# Altium schematic symbol library kmilo17pet-NSC_Switcher.SchLib: 2226 symbols (part 52 of 59)
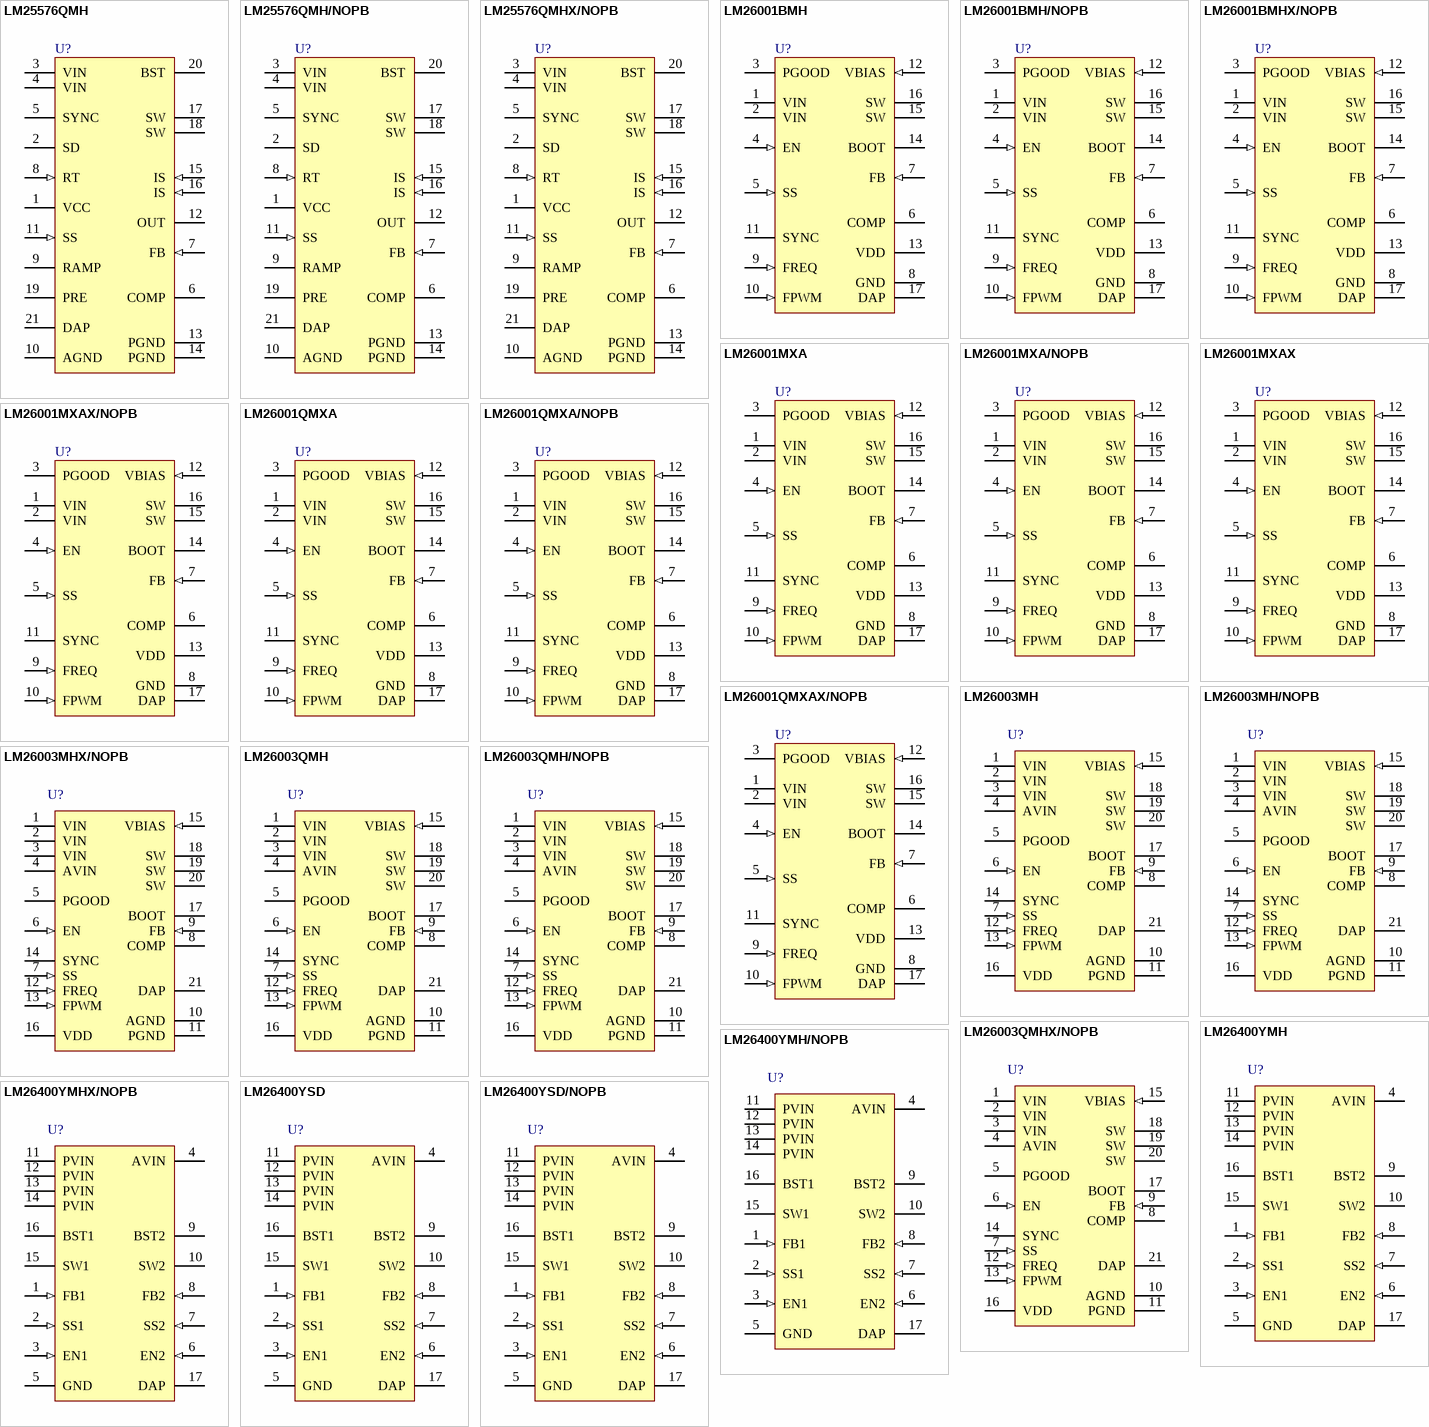
[diagram p120: symbols LM25576QMH to LM26400YSD/NOPB]

## LM26400YMH
designator U?
Dual 2A, 500kHz Wide Input Range Buck Regulator, 16-pin TSSOP-EP; PartNumber: LM26400YMH; Manufacturer: National Semiconductor; PackageTopMarking: NSUZXYTT*L26400*YMH; PowerWise: N; CompType: Switcher; High-Reliability: Y; DatasheetVersion: Aug-2007; PackageVersion: revA, Apr-2003; PackageReference: MXA16A; PackageDescription: Molded TSSOP, Jedec, Exposed Pad, 5.0 x 4.4 x 0.9mm Body,16 Lead, 0.65mm Pitch; RoHS: Y; PinCount: 16; Code_JEDEC: MO-153-ABT; ComponentLink1Description: Manufacturer URL; ComponentLink1URL: http://www.national.com/; ComponentLink2Description: LM26400Y Datasheet; ComponentLink2URL: http://www.national.com/ds/LM/LM26400Y.pdf; ComponentLink3Description: LM26400Y Web Page; ComponentLink3URL: http://www.national.com/pf/LM/LM26400Y.html; ComponentLink4Description: MXA16A Package Page; ComponentLink4URL: http://www.national.com/packaging/folders/mxa16a.html
footprint MXA16A_N (TSOP, 16-Leads, Body 5x4.4mm, Pitch 0.65mm, Thermal Pad, IPC Medium Density)
footprint MXA16A_L (TSOP, 16-Leads, Body 5x4.4mm, Pitch 0.65mm, Thermal Pad, IPC High Density)
footprint MXA16A_M (TSOP, 16-Leads, Body 5x4.4mm, Pitch 0.65mm, Thermal Pad, IPC Low Density)
pins: 1 FB1 (in), 2 SS1 (in), 3 EN1 (in), 4 AVIN (power), 5 GND (power), 6 EN2 (in), 7 SS2 (in), 8 FB2 (in), 9 BST2, 10 SW2 (power), 11 PVIN (power), 12 PVIN (power), 13 PVIN (power), 14 PVIN (power), 15 SW1 (power), 16 BST1, 17 DAP (power)

## LM26400YMH/NOPB
designator U?
Dual 2A, 500kHz Wide Input Range Buck Regulator, 16-pin TSSOP-EP, Pb-Free; PartNumber: LM26400YMH/NOPB; Manufacturer: National Semiconductor; PackageTopMarking: NSUZXYTT*L26400*YMH; PowerWise: N; CompType: Switcher; High-Reliability: Y; DatasheetVersion: Aug-2007; PackageVersion: revA, Apr-2003; PackageReference: MXA16A; PackageDescription: Molded TSSOP, Jedec, Exposed Pad, 5.0 x 4.4 x 0.9mm Body,16 Lead, 0.65mm Pitch; RoHS: Y; PinCount: 16; Code_JEDEC: MO-153-ABT; ComponentLink1Description: Manufacturer URL; ComponentLink1URL: http://www.national.com/; ComponentLink2Description: LM26400Y Datasheet; ComponentLink2URL: http://www.national.com/ds/LM/LM26400Y.pdf; ComponentLink3Description: LM26400Y Web Page; ComponentLink3URL: http://www.national.com/pf/LM/LM26400Y.html; ComponentLink4Description: MXA16A Package Page; ComponentLink4URL: http://www.national.com/packaging/folders/mxa16a.html
footprint MXA16A_N (TSOP, 16-Leads, Body 5x4.4mm, Pitch 0.65mm, Thermal Pad, IPC Medium Density)
footprint MXA16A_L (TSOP, 16-Leads, Body 5x4.4mm, Pitch 0.65mm, Thermal Pad, IPC High Density)
footprint MXA16A_M (TSOP, 16-Leads, Body 5x4.4mm, Pitch 0.65mm, Thermal Pad, IPC Low Density)
pins: 1 FB1 (in), 2 SS1 (in), 3 EN1 (in), 4 AVIN (power), 5 GND (power), 6 EN2 (in), 7 SS2 (in), 8 FB2 (in), 9 BST2, 10 SW2 (power), 11 PVIN (power), 12 PVIN (power), 13 PVIN (power), 14 PVIN (power), 15 SW1 (power), 16 BST1, 17 DAP (power)

## LM26400YMHX/NOPB
designator U?
Dual 2A, 500kHz Wide Input Range Buck Regulator, 16-pin TSSOP-EP, Pb-Free; PartNumber: LM26400YMHX/NOPB; Manufacturer: National Semiconductor; PackageTopMarking: NSUZXYTT*L26400*YMH; PowerWise: N; CompType: Switcher; High-Reliability: Y; DatasheetVersion: Aug-2007; PackageVersion: revA, Apr-2003; PackageReference: MXA16A; PackageDescription: Molded TSSOP, Jedec, Exposed Pad, 5.0 x 4.4 x 0.9mm Body,16 Lead, 0.65mm Pitch; RoHS: Y; PinCount: 16; Code_JEDEC: MO-153-ABT; ComponentLink1Description: Manufacturer URL; ComponentLink1URL: http://www.national.com/; ComponentLink2Description: LM26400Y Datasheet; ComponentLink2URL: http://www.national.com/ds/LM/LM26400Y.pdf; ComponentLink3Description: LM26400Y Web Page; ComponentLink3URL: http://www.national.com/pf/LM/LM26400Y.html; ComponentLink4Description: MXA16A Package Page; ComponentLink4URL: http://www.national.com/packaging/folders/mxa16a.html
footprint MXA16A_N (TSOP, 16-Leads, Body 5x4.4mm, Pitch 0.65mm, Thermal Pad, IPC Medium Density)
footprint MXA16A_L (TSOP, 16-Leads, Body 5x4.4mm, Pitch 0.65mm, Thermal Pad, IPC High Density)
footprint MXA16A_M (TSOP, 16-Leads, Body 5x4.4mm, Pitch 0.65mm, Thermal Pad, IPC Low Density)
pins: 1 FB1 (in), 2 SS1 (in), 3 EN1 (in), 4 AVIN (power), 5 GND (power), 6 EN2 (in), 7 SS2 (in), 8 FB2 (in), 9 BST2, 10 SW2 (power), 11 PVIN (power), 12 PVIN (power), 13 PVIN (power), 14 PVIN (power), 15 SW1 (power), 16 BST1, 17 DAP (power)

## LM26400YSD
designator U?
Dual 2A, 500kHz Wide Input Range Buck Regulator, 16-pin LLP; PartNumber: LM26400YSD; Manufacturer: National Semiconductor; PackageTopMarking: NS*UZXYTT*L26400Y; PowerWise: N; CompType: Switcher; High-Reliability: Y; DatasheetVersion: Aug-2007; PackageVersion: revA, May-2003; PackageReference: SDA16A; PackageDescription: LLP, Plastic, Dual, 5 x 5 x 0.8mm Body,16 Lead, 0.5mm Pitch, No Pullback; RoHS: N; PinCount: 16; ComponentLink1Description: Manufacturer URL; ComponentLink1URL: http://www.national.com/; ComponentLink2Description: LM26400Y Datasheet; ComponentLink2URL: http://www.national.com/ds/LM/LM26400Y.pdf; ComponentLink3Description: LM26400Y Web Page; ComponentLink3URL: http://www.national.com/pf/LM/LM26400Y.html; ComponentLink4Description: SDA16A Package Page; ComponentLink4URL: http://www.national.com/packaging/folders/sda16a.html
footprint SDA16A (SON, 16-Leads, Body 5x5mm, Pitch 0.5mm, NSC Recommended)
pins: 1 FB1 (in), 2 SS1 (in), 3 EN1 (in), 4 AVIN (power), 5 GND (power), 6 EN2 (in), 7 SS2 (in), 8 FB2 (in), 9 BST2, 10 SW2 (power), 11 PVIN (power), 12 PVIN (power), 13 PVIN (power), 14 PVIN (power), 15 SW1 (power), 16 BST1, 17 DAP (power)

## LM26400YSD/NOPB
designator U?
Dual 2A, 500kHz Wide Input Range Buck Regulator, 16-pin LLP, Pb-Free; PartNumber: LM26400YSD/NOPB; Manufacturer: National Semiconductor; PackageTopMarking: NS*UZXYTT*L26400Y; PowerWise: N; CompType: Switcher; High-Reliability: Y; DatasheetVersion: Aug-2007; PackageVersion: revA, May-2003; PackageReference: SDA16A; PackageDescription: LLP, Plastic, Dual, 5 x 5 x 0.8mm Body,16 Lead, 0.5mm Pitch, No Pullback; RoHS: Y; PinCount: 16; ComponentLink1Description: Manufacturer URL; ComponentLink1URL: http://www.national.com/; ComponentLink2Description: LM26400Y Datasheet; ComponentLink2URL: http://www.national.com/ds/LM/LM26400Y.pdf; ComponentLink3Description: LM26400Y Web Page; ComponentLink3URL: http://www.national.com/pf/LM/LM26400Y.html; ComponentLink4Description: SDA16A Package Page; ComponentLink4URL: http://www.national.com/packaging/folders/sda16a.html
footprint SDA16A (SON, 16-Leads, Body 5x5mm, Pitch 0.5mm, NSC Recommended)
pins: 1 FB1 (in), 2 SS1 (in), 3 EN1 (in), 4 AVIN (power), 5 GND (power), 6 EN2 (in), 7 SS2 (in), 8 FB2 (in), 9 BST2, 10 SW2 (power), 11 PVIN (power), 12 PVIN (power), 13 PVIN (power), 14 PVIN (power), 15 SW1 (power), 16 BST1, 17 DAP (power)

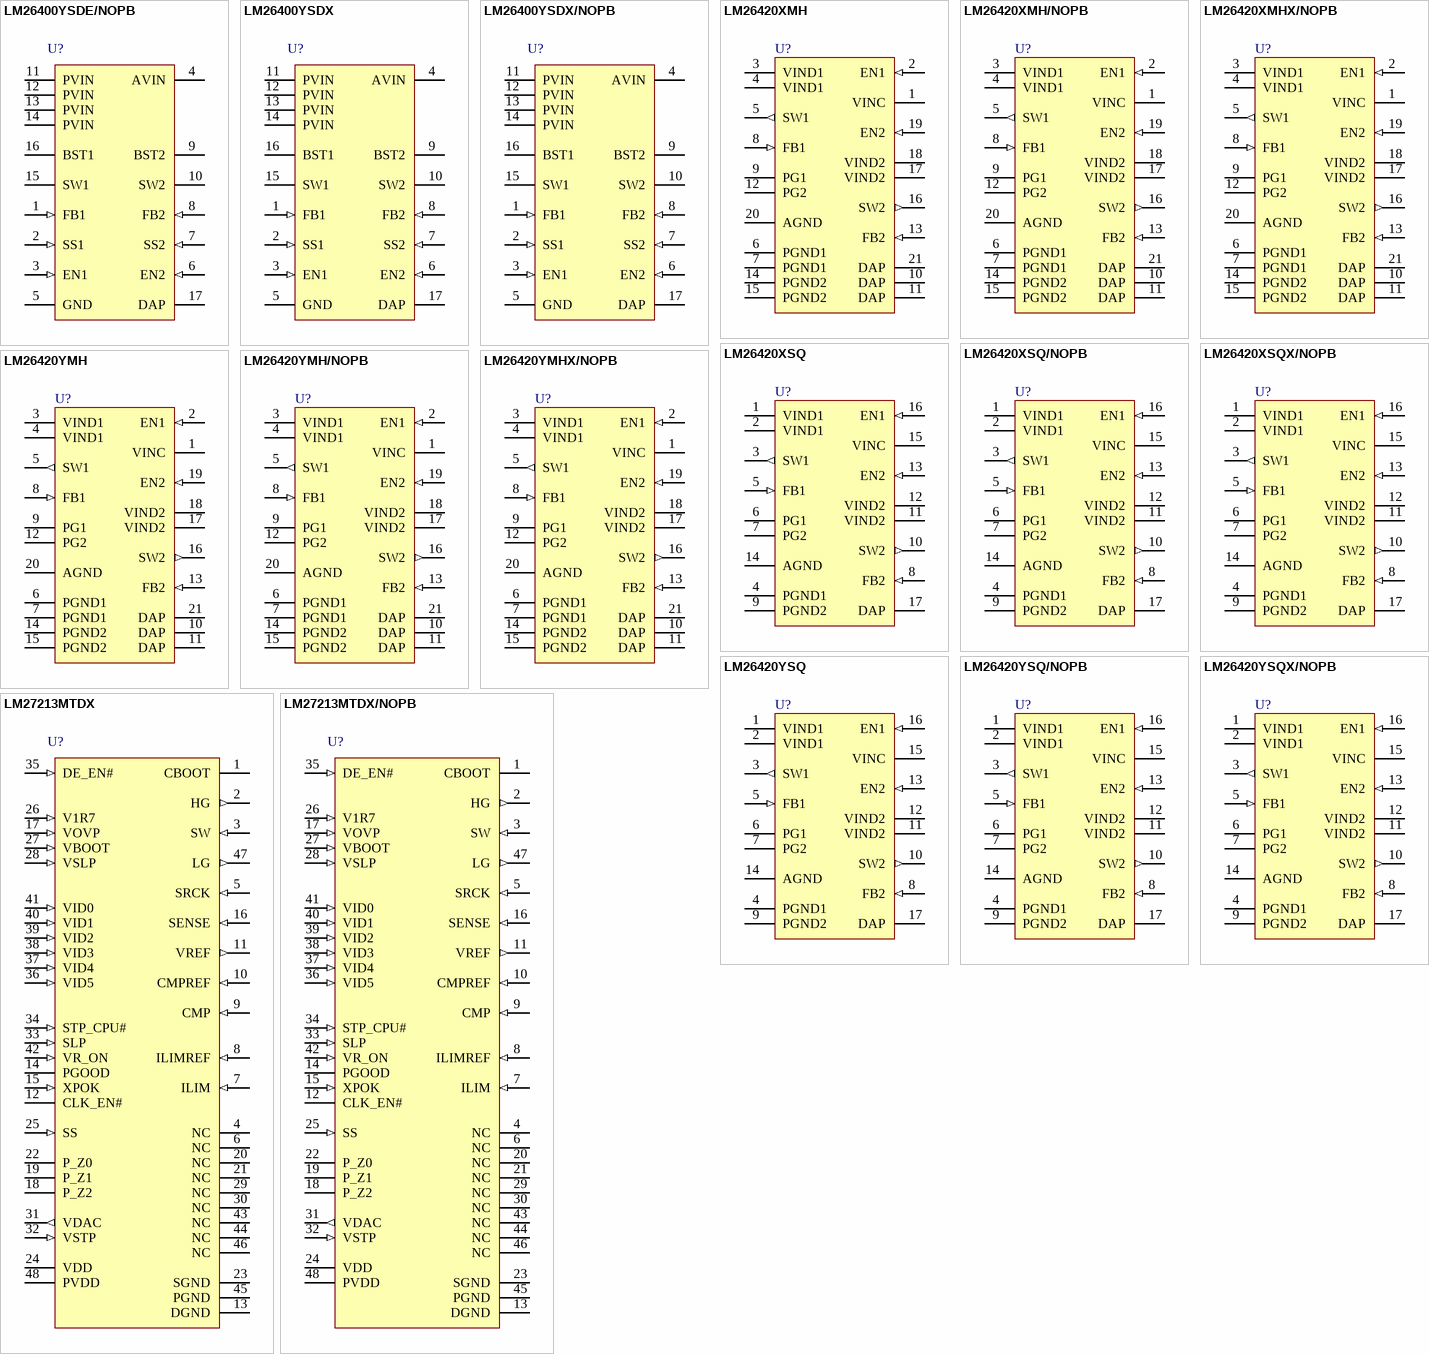
[diagram p59: symbols LM26400YSDE/NOPB to LM27213MTDX/NOPB]

## LM26400YSDE/NOPB
designator U?
Dual 2A, 500kHz Wide Input Range Buck Regulator, 16-pin LLP, Pb-Free; PartNumber: LM26400YSDE/NOPB; Manufacturer: National Semiconductor; PackageTopMarking: NS*UZXYTT*L26400Y; PowerWise: N; CompType: Switcher; High-Reliability: Y; DatasheetVersion: Aug-2007; PackageVersion: revA, May-2003; PackageReference: SDA16A; PackageDescription: LLP, Plastic, Dual, 5 x 5 x 0.8mm Body,16 Lead, 0.5mm Pitch, No Pullback; RoHS: Y; PinCount: 16; ComponentLink1Description: Manufacturer URL; ComponentLink1URL: http://www.national.com/; ComponentLink2Description: LM26400Y Datasheet; ComponentLink2URL: http://www.national.com/ds/LM/LM26400Y.pdf; ComponentLink3Description: LM26400Y Web Page; ComponentLink3URL: http://www.national.com/pf/LM/LM26400Y.html; ComponentLink4Description: SDA16A Package Page; ComponentLink4URL: http://www.national.com/packaging/folders/sda16a.html
footprint SDA16A (SON, 16-Leads, Body 5x5mm, Pitch 0.5mm, NSC Recommended)
pins: 1 FB1 (in), 2 SS1 (in), 3 EN1 (in), 4 AVIN (power), 5 GND (power), 6 EN2 (in), 7 SS2 (in), 8 FB2 (in), 9 BST2, 10 SW2 (power), 11 PVIN (power), 12 PVIN (power), 13 PVIN (power), 14 PVIN (power), 15 SW1 (power), 16 BST1, 17 DAP (power)

## LM26400YSDX
designator U?
Dual 2A, 500kHz Wide Input Range Buck Regulator, 16-pin LLP; PartNumber: LM26400YSDX; Manufacturer: National Semiconductor; PackageTopMarking: NS*UZXYTT*L26400Y; PowerWise: N; CompType: Switcher; High-Reliability: Y; DatasheetVersion: Aug-2007; PackageVersion: revA, May-2003; PackageReference: SDA16A; PackageDescription: LLP, Plastic, Dual, 5 x 5 x 0.8mm Body,16 Lead, 0.5mm Pitch, No Pullback; RoHS: N; PinCount: 16; ComponentLink1Description: Manufacturer URL; ComponentLink1URL: http://www.national.com/; ComponentLink2Description: LM26400Y Datasheet; ComponentLink2URL: http://www.national.com/ds/LM/LM26400Y.pdf; ComponentLink3Description: LM26400Y Web Page; ComponentLink3URL: http://www.national.com/pf/LM/LM26400Y.html; ComponentLink4Description: SDA16A Package Page; ComponentLink4URL: http://www.national.com/packaging/folders/sda16a.html
footprint SDA16A (SON, 16-Leads, Body 5x5mm, Pitch 0.5mm, NSC Recommended)
pins: 1 FB1 (in), 2 SS1 (in), 3 EN1 (in), 4 AVIN (power), 5 GND (power), 6 EN2 (in), 7 SS2 (in), 8 FB2 (in), 9 BST2, 10 SW2 (power), 11 PVIN (power), 12 PVIN (power), 13 PVIN (power), 14 PVIN (power), 15 SW1 (power), 16 BST1, 17 DAP (power)

## LM26400YSDX/NOPB
designator U?
Dual 2A, 500kHz Wide Input Range Buck Regulator, 16-pin LLP, Pb-Free; PartNumber: LM26400YSDX/NOPB; Manufacturer: National Semiconductor; PackageTopMarking: NS*UZXYTT*L26400Y; PowerWise: N; CompType: Switcher; High-Reliability: Y; DatasheetVersion: Aug-2007; PackageVersion: revA, May-2003; PackageReference: SDA16A; PackageDescription: LLP, Plastic, Dual, 5 x 5 x 0.8mm Body,16 Lead, 0.5mm Pitch, No Pullback; RoHS: Y; PinCount: 16; ComponentLink1Description: Manufacturer URL; ComponentLink1URL: http://www.national.com/; ComponentLink2Description: LM26400Y Datasheet; ComponentLink2URL: http://www.national.com/ds/LM/LM26400Y.pdf; ComponentLink3Description: LM26400Y Web Page; ComponentLink3URL: http://www.national.com/pf/LM/LM26400Y.html; ComponentLink4Description: SDA16A Package Page; ComponentLink4URL: http://www.national.com/packaging/folders/sda16a.html
footprint SDA16A (SON, 16-Leads, Body 5x5mm, Pitch 0.5mm, NSC Recommended)
pins: 1 FB1 (in), 2 SS1 (in), 3 EN1 (in), 4 AVIN (power), 5 GND (power), 6 EN2 (in), 7 SS2 (in), 8 FB2 (in), 9 BST2, 10 SW2 (power), 11 PVIN (power), 12 PVIN (power), 13 PVIN (power), 14 PVIN (power), 15 SW1 (power), 16 BST1, 17 DAP (power)

## LM26420XMH
designator U?
Dual 2.0A, High Frequency Synchronous Step-Down DC-DC Regulator, 2.2MHz, 20-pin TSSOP-EP; PartNumber: LM26420XMH; Manufacturer: National Semiconductor; PackageTopMarking: NSUZXYTT*LM26420*XMH; PowerWise: Y; CompType: Switcher; DatasheetVersion: May-2009; PackageVersion: revC, Jul-2006; PackageReference: MXA20A; PackageDescription: Molded TSSOP, Jedec, 6.5 x 4.4 x 0.9mm Body, 20 Lead, 0.65mm Pitch, Exposed Pad; RoHS: Y; PinCount: 20; High-Reliability: Y; Code_JEDEC: MO-153-ACT; ComponentLink1Description: Manufacturer URL; ComponentLink1URL: http://www.national.com/; ComponentLink2Description: LM26420 Datasheet; ComponentLink2URL: http://www.national.com/ds/LM/LM26420.pdf; ComponentLink3Description: LM26420 Web Page; ComponentLink3URL: http://www.national.com/pf/LM/LM26420.html; ComponentLink4Description: MXA20A Package Page; ComponentLink4URL: http://www.national.com/packaging/folders/mxa20a.html
footprint MXA20A_N (TSOP, 20-Leads, Body 6.5x4.4mm, Pitch 0.65mm, Thermal Pad, IPC Medium Density)
footprint MXA20A_L (TSOP, 20-Leads, Body 6.5x4.4mm, Pitch 0.65mm, Thermal Pad, IPC High Density)
footprint MXA20A_M (TSOP, 20-Leads, Body 6.5x4.4mm, Pitch 0.65mm, Thermal Pad, IPC Low Density)
pins: 1 VINC (power), 2 EN1 (in), 3 VIND1 (power), 4 VIND1 (power), 5 SW1 (out), 6 PGND1 (power), 7 PGND1 (power), 8 FB1 (in), 9 PG1 (oc), 10 DAP (power), 11 DAP (power), 12 PG2 (oc), 13 FB2 (in), 14 PGND2 (power), 15 PGND2 (power), 16 SW2 (out), 17 VIND2 (power), 18 VIND2 (power), 19 EN2 (in), 20 AGND (power), 21 DAP (power)

## LM26420XMH/NOPB
designator U?
Dual 2.0A, High Frequency Synchronous Step-Down DC-DC Regulator, 20-pin TSSOP-EP, Pb-Free; PartNumber: LM26420XMH/NOPB; Manufacturer: National Semiconductor; PackageTopMarking: NSUZXYTT*LM26420*XMH; PowerWise: Y; CompType: Switcher; DatasheetVersion: May-2009; PackageVersion: revC, Jul-2006; PackageReference: MXA20A; PackageDescription: Molded TSSOP, Jedec, 6.5 x 4.4 x 0.9mm Body, 20 Lead, 0.65mm Pitch, Exposed Pad; RoHS: Y; PinCount: 20; High-Reliability: Y; Code_JEDEC: MO-153-ACT; ComponentLink1Description: Manufacturer URL; ComponentLink1URL: http://www.national.com/; ComponentLink2Description: LM26420 Datasheet; ComponentLink2URL: http://www.national.com/ds/LM/LM26420.pdf; ComponentLink3Description: LM26420 Web Page; ComponentLink3URL: http://www.national.com/pf/LM/LM26420.html; ComponentLink4Description: MXA20A Package Page; ComponentLink4URL: http://www.national.com/packaging/folders/mxa20a.html
footprint MXA20A_N (TSOP, 20-Leads, Body 6.5x4.4mm, Pitch 0.65mm, Thermal Pad, IPC Medium Density)
footprint MXA20A_L (TSOP, 20-Leads, Body 6.5x4.4mm, Pitch 0.65mm, Thermal Pad, IPC High Density)
footprint MXA20A_M (TSOP, 20-Leads, Body 6.5x4.4mm, Pitch 0.65mm, Thermal Pad, IPC Low Density)
pins: 1 VINC (power), 2 EN1 (in), 3 VIND1 (power), 4 VIND1 (power), 5 SW1 (out), 6 PGND1 (power), 7 PGND1 (power), 8 FB1 (in), 9 PG1 (oc), 10 DAP (power), 11 DAP (power), 12 PG2 (oc), 13 FB2 (in), 14 PGND2 (power), 15 PGND2 (power), 16 SW2 (out), 17 VIND2 (power), 18 VIND2 (power), 19 EN2 (in), 20 AGND (power), 21 DAP (power)

## LM26420XMHX/NOPB
designator U?
Dual 2.0A, High Frequency Synchronous Step-Down DC-DC Regulator, 20-pin TSSOP-EP, Pb-Free; PartNumber: LM26420XMHX/NOPB; Manufacturer: National Semiconductor; PackageTopMarking: NSUZXYTT*LM26420*XMH; PowerWise: Y; CompType: Switcher; DatasheetVersion: May-2009; PackageVersion: revC, Jul-2006; PackageReference: MXA20A; PackageDescription: Molded TSSOP, Jedec, 6.5 x 4.4 x 0.9mm Body, 20 Lead, 0.65mm Pitch, Exposed Pad; RoHS: Y; PinCount: 20; High-Reliability: Y; Code_JEDEC: MO-153-ACT; ComponentLink1Description: Manufacturer URL; ComponentLink1URL: http://www.national.com/; ComponentLink2Description: LM26420 Datasheet; ComponentLink2URL: http://www.national.com/ds/LM/LM26420.pdf; ComponentLink3Description: LM26420 Web Page; ComponentLink3URL: http://www.national.com/pf/LM/LM26420.html; ComponentLink4Description: MXA20A Package Page; ComponentLink4URL: http://www.national.com/packaging/folders/mxa20a.html
footprint MXA20A_N (TSOP, 20-Leads, Body 6.5x4.4mm, Pitch 0.65mm, Thermal Pad, IPC Medium Density)
footprint MXA20A_L (TSOP, 20-Leads, Body 6.5x4.4mm, Pitch 0.65mm, Thermal Pad, IPC High Density)
footprint MXA20A_M (TSOP, 20-Leads, Body 6.5x4.4mm, Pitch 0.65mm, Thermal Pad, IPC Low Density)
pins: 1 VINC (power), 2 EN1 (in), 3 VIND1 (power), 4 VIND1 (power), 5 SW1 (out), 6 PGND1 (power), 7 PGND1 (power), 8 FB1 (in), 9 PG1 (oc), 10 DAP (power), 11 DAP (power), 12 PG2 (oc), 13 FB2 (in), 14 PGND2 (power), 15 PGND2 (power), 16 SW2 (out), 17 VIND2 (power), 18 VIND2 (power), 19 EN2 (in), 20 AGND (power), 21 DAP (power)

## LM26420XSQ
designator U?
Dual 2.0A, High Frequency Synchronous Step-Down DC-DC Regulator, 2.2MHz, 16-pin LLP; PartNumber: LM26420XSQ; Manufacturer: National Semiconductor; PackageTopMarking: NS*UZXYTT*L26420X; PowerWise: Y; CompType: Switcher; DatasheetVersion: May-2009; PackageVersion: revA, Dec-2005; PackageReference: SQB16A; PackageDescription: LLP, Plastic, Quad, 4 x 4 x 0.8mm, 16 Lead, 0.65mm Pitch, No Pullback; RoHS: Y; PinCount: 16; High-Reliability: Y; ComponentLink1Description: Manufacturer URL; ComponentLink1URL: http://www.national.com/; ComponentLink2Description: LM26420 Datasheet; ComponentLink2URL: http://www.national.com/ds/LM/LM26420.pdf; ComponentLink3Description: LM26420 Web Page; ComponentLink3URL: http://www.national.com/pf/LM/LM26420.html; ComponentLink4Description: SQB16A Package Page; ComponentLink4URL: http://www.national.com/packaging/folders/sqb16a.html
footprint SQB16A (QFN, 16-Leads, Body 4x4mm, Pitch 0.65mm, Thermal Pad 2.6x2.6mm, NSC Recommended)
pins: 1 VIND1 (power), 2 VIND1 (power), 3 SW1 (out), 4 PGND1 (power), 5 FB1 (in), 6 PG1 (oc), 7 PG2 (oc), 8 FB2 (in), 9 PGND2 (power), 10 SW2 (out), 11 VIND2 (power), 12 VIND2 (power), 13 EN2 (in), 14 AGND (power), 15 VINC (power), 16 EN1 (in), 17 DAP (power)

## LM26420XSQ/NOPB
designator U?
Dual 2.0A, High Frequency Synchronous Step-Down DC-DC Regulator, 16-pin LLP, Pb-Free; PartNumber: LM26420XSQ/NOPB; Manufacturer: National Semiconductor; PackageTopMarking: NS*UZXYTT*L26420X; PowerWise: Y; CompType: Switcher; DatasheetVersion: May-2009; PackageVersion: revA, Dec-2005; PackageReference: SQB16A; PackageDescription: LLP, Plastic, Quad, 4 x 4 x 0.8mm, 16 Lead, 0.65mm Pitch, No Pullback; RoHS: Y; PinCount: 16; High-Reliability: Y; ComponentLink1Description: Manufacturer URL; ComponentLink1URL: http://www.national.com/; ComponentLink2Description: LM26420 Datasheet; ComponentLink2URL: http://www.national.com/ds/LM/LM26420.pdf; ComponentLink3Description: LM26420 Web Page; ComponentLink3URL: http://www.national.com/pf/LM/LM26420.html; ComponentLink4Description: SQB16A Package Page; ComponentLink4URL: http://www.national.com/packaging/folders/sqb16a.html
footprint SQB16A (QFN, 16-Leads, Body 4x4mm, Pitch 0.65mm, Thermal Pad 2.6x2.6mm, NSC Recommended)
pins: 1 VIND1 (power), 2 VIND1 (power), 3 SW1 (out), 4 PGND1 (power), 5 FB1 (in), 6 PG1 (oc), 7 PG2 (oc), 8 FB2 (in), 9 PGND2 (power), 10 SW2 (out), 11 VIND2 (power), 12 VIND2 (power), 13 EN2 (in), 14 AGND (power), 15 VINC (power), 16 EN1 (in), 17 DAP (power)

## LM26420XSQX/NOPB
designator U?
Dual 2.0A, High Frequency Synchronous Step-Down DC-DC Regulator, 16-pin LLP, Pb-Free; PartNumber: LM26420XSQX/NOPB; Manufacturer: National Semiconductor; PackageTopMarking: NS*UZXYTT*L26420X; PowerWise: Y; CompType: Switcher; DatasheetVersion: May-2009; PackageVersion: revA, Dec-2005; PackageReference: SQB16A; PackageDescription: LLP, Plastic, Quad, 4 x 4 x 0.8mm, 16 Lead, 0.65mm Pitch, No Pullback; RoHS: Y; PinCount: 16; High-Reliability: Y; ComponentLink1Description: Manufacturer URL; ComponentLink1URL: http://www.national.com/; ComponentLink2Description: LM26420 Datasheet; ComponentLink2URL: http://www.national.com/ds/LM/LM26420.pdf; ComponentLink3Description: LM26420 Web Page; ComponentLink3URL: http://www.national.com/pf/LM/LM26420.html; ComponentLink4Description: SQB16A Package Page; ComponentLink4URL: http://www.national.com/packaging/folders/sqb16a.html
footprint SQB16A (QFN, 16-Leads, Body 4x4mm, Pitch 0.65mm, Thermal Pad 2.6x2.6mm, NSC Recommended)
pins: 1 VIND1 (power), 2 VIND1 (power), 3 SW1 (out), 4 PGND1 (power), 5 FB1 (in), 6 PG1 (oc), 7 PG2 (oc), 8 FB2 (in), 9 PGND2 (power), 10 SW2 (out), 11 VIND2 (power), 12 VIND2 (power), 13 EN2 (in), 14 AGND (power), 15 VINC (power), 16 EN1 (in), 17 DAP (power)

## LM26420YMH
designator U?
Dual 2.0A, High Frequency Synchronous Step-Down DC-DC Regulator, 0.55MHz, 20-pin TSSOP-EP; PartNumber: LM26420YMH; Manufacturer: National Semiconductor; PackageTopMarking: NSUZXYTT*LM26420*YMH; PowerWise: Y; CompType: Switcher; DatasheetVersion: May-2009; PackageVersion: revC, Jul-2006; PackageReference: MXA20A; PackageDescription: Molded TSSOP, Jedec, 6.5 x 4.4 x 0.9mm Body, 20 Lead, 0.65mm Pitch, Exposed Pad; RoHS: Y; PinCount: 20; High-Reliability: Y; Code_JEDEC: MO-153-ACT; ComponentLink1Description: Manufacturer URL; ComponentLink1URL: http://www.national.com/; ComponentLink2Description: LM26420 Datasheet; ComponentLink2URL: http://www.national.com/ds/LM/LM26420.pdf; ComponentLink3Description: LM26420 Web Page; ComponentLink3URL: http://www.national.com/pf/LM/LM26420.html; ComponentLink4Description: MXA20A Package Page; ComponentLink4URL: http://www.national.com/packaging/folders/mxa20a.html
footprint MXA20A_N (TSOP, 20-Leads, Body 6.5x4.4mm, Pitch 0.65mm, Thermal Pad, IPC Medium Density)
footprint MXA20A_L (TSOP, 20-Leads, Body 6.5x4.4mm, Pitch 0.65mm, Thermal Pad, IPC High Density)
footprint MXA20A_M (TSOP, 20-Leads, Body 6.5x4.4mm, Pitch 0.65mm, Thermal Pad, IPC Low Density)
pins: 1 VINC (power), 2 EN1 (in), 3 VIND1 (power), 4 VIND1 (power), 5 SW1 (out), 6 PGND1 (power), 7 PGND1 (power), 8 FB1 (in), 9 PG1 (oc), 10 DAP (power), 11 DAP (power), 12 PG2 (oc), 13 FB2 (in), 14 PGND2 (power), 15 PGND2 (power), 16 SW2 (out), 17 VIND2 (power), 18 VIND2 (power), 19 EN2 (in), 20 AGND (power), 21 DAP (power)

## LM26420YMH/NOPB
designator U?
Dual 2.0A, High Frequency Synchronous Step-Down DC-DC Regulator, 20-pin TSSOP-EP, Pb-Free; PartNumber: LM26420YMH/NOPB; Manufacturer: National Semiconductor; PackageTopMarking: NSUZXYTT*LM26420*YMH; PowerWise: Y; CompType: Switcher; DatasheetVersion: May-2009; PackageVersion: revC, Jul-2006; PackageReference: MXA20A; PackageDescription: Molded TSSOP, Jedec, 6.5 x 4.4 x 0.9mm Body, 20 Lead, 0.65mm Pitch, Exposed Pad; RoHS: Y; PinCount: 20; High-Reliability: Y; Code_JEDEC: MO-153-ACT; ComponentLink1Description: Manufacturer URL; ComponentLink1URL: http://www.national.com/; ComponentLink2Description: LM26420 Datasheet; ComponentLink2URL: http://www.national.com/ds/LM/LM26420.pdf; ComponentLink3Description: LM26420 Web Page; ComponentLink3URL: http://www.national.com/pf/LM/LM26420.html; ComponentLink4Description: MXA20A Package Page; ComponentLink4URL: http://www.national.com/packaging/folders/mxa20a.html
footprint MXA20A_N (TSOP, 20-Leads, Body 6.5x4.4mm, Pitch 0.65mm, Thermal Pad, IPC Medium Density)
footprint MXA20A_L (TSOP, 20-Leads, Body 6.5x4.4mm, Pitch 0.65mm, Thermal Pad, IPC High Density)
footprint MXA20A_M (TSOP, 20-Leads, Body 6.5x4.4mm, Pitch 0.65mm, Thermal Pad, IPC Low Density)
pins: 1 VINC (power), 2 EN1 (in), 3 VIND1 (power), 4 VIND1 (power), 5 SW1 (out), 6 PGND1 (power), 7 PGND1 (power), 8 FB1 (in), 9 PG1 (oc), 10 DAP (power), 11 DAP (power), 12 PG2 (oc), 13 FB2 (in), 14 PGND2 (power), 15 PGND2 (power), 16 SW2 (out), 17 VIND2 (power), 18 VIND2 (power), 19 EN2 (in), 20 AGND (power), 21 DAP (power)

## LM26420YMHX/NOPB
designator U?
Dual 2.0A, High Frequency Synchronous Step-Down DC-DC Regulator, 20-pin TSSOP-EP, Pb-Free; PartNumber: LM26420YMHX/NOPB; Manufacturer: National Semiconductor; PackageTopMarking: NSUZXYTT*LM26420*YMH; PowerWise: Y; CompType: Switcher; DatasheetVersion: May-2009; PackageVersion: revC, Jul-2006; PackageReference: MXA20A; PackageDescription: Molded TSSOP, Jedec, 6.5 x 4.4 x 0.9mm Body, 20 Lead, 0.65mm Pitch, Exposed Pad; RoHS: Y; PinCount: 20; High-Reliability: Y; Code_JEDEC: MO-153-ACT; ComponentLink1Description: Manufacturer URL; ComponentLink1URL: http://www.national.com/; ComponentLink2Description: LM26420 Datasheet; ComponentLink2URL: http://www.national.com/ds/LM/LM26420.pdf; ComponentLink3Description: LM26420 Web Page; ComponentLink3URL: http://www.national.com/pf/LM/LM26420.html; ComponentLink4Description: MXA20A Package Page; ComponentLink4URL: http://www.national.com/packaging/folders/mxa20a.html
footprint MXA20A_N (TSOP, 20-Leads, Body 6.5x4.4mm, Pitch 0.65mm, Thermal Pad, IPC Medium Density)
footprint MXA20A_L (TSOP, 20-Leads, Body 6.5x4.4mm, Pitch 0.65mm, Thermal Pad, IPC High Density)
footprint MXA20A_M (TSOP, 20-Leads, Body 6.5x4.4mm, Pitch 0.65mm, Thermal Pad, IPC Low Density)
pins: 1 VINC (power), 2 EN1 (in), 3 VIND1 (power), 4 VIND1 (power), 5 SW1 (out), 6 PGND1 (power), 7 PGND1 (power), 8 FB1 (in), 9 PG1 (oc), 10 DAP (power), 11 DAP (power), 12 PG2 (oc), 13 FB2 (in), 14 PGND2 (power), 15 PGND2 (power), 16 SW2 (out), 17 VIND2 (power), 18 VIND2 (power), 19 EN2 (in), 20 AGND (power), 21 DAP (power)

## LM26420YSQ
designator U?
Dual 2.0A, High Frequency Synchronous Step-Down DC-DC Regulator, 0.55MHz, 16-pin LLP; PartNumber: LM26420YSQ; Manufacturer: National Semiconductor; PackageTopMarking: NS*UZXYTT*L26420Y; PowerWise: Y; CompType: Switcher; DatasheetVersion: May-2009; PackageVersion: revA, Dec-2005; PackageReference: SQB16A; PackageDescription: LLP, Plastic, Quad, 4 x 4 x 0.8mm, 16 Lead, 0.65mm Pitch, No Pullback; RoHS: Y; PinCount: 16; High-Reliability: Y; ComponentLink1Description: Manufacturer URL; ComponentLink1URL: http://www.national.com/; ComponentLink2Description: LM26420 Datasheet; ComponentLink2URL: http://www.national.com/ds/LM/LM26420.pdf; ComponentLink3Description: LM26420 Web Page; ComponentLink3URL: http://www.national.com/pf/LM/LM26420.html; ComponentLink4Description: SQB16A Package Page; ComponentLink4URL: http://www.national.com/packaging/folders/sqb16a.html
footprint SQB16A (QFN, 16-Leads, Body 4x4mm, Pitch 0.65mm, Thermal Pad 2.6x2.6mm, NSC Recommended)
pins: 1 VIND1 (power), 2 VIND1 (power), 3 SW1 (out), 4 PGND1 (power), 5 FB1 (in), 6 PG1 (oc), 7 PG2 (oc), 8 FB2 (in), 9 PGND2 (power), 10 SW2 (out), 11 VIND2 (power), 12 VIND2 (power), 13 EN2 (in), 14 AGND (power), 15 VINC (power), 16 EN1 (in), 17 DAP (power)

## LM26420YSQ/NOPB
designator U?
Dual 2.0A, High Frequency Synchronous Step-Down DC-DC Regulator, 16-pin LLP, Pb-Free; PartNumber: LM26420YSQ/NOPB; Manufacturer: National Semiconductor; PackageTopMarking: NS*UZXYTT*L26420Y; PowerWise: Y; CompType: Switcher; DatasheetVersion: May-2009; PackageVersion: revA, Dec-2005; PackageReference: SQB16A; PackageDescription: LLP, Plastic, Quad, 4 x 4 x 0.8mm, 16 Lead, 0.65mm Pitch, No Pullback; RoHS: Y; PinCount: 16; High-Reliability: Y; ComponentLink1Description: Manufacturer URL; ComponentLink1URL: http://www.national.com/; ComponentLink2Description: LM26420 Datasheet; ComponentLink2URL: http://www.national.com/ds/LM/LM26420.pdf; ComponentLink3Description: LM26420 Web Page; ComponentLink3URL: http://www.national.com/pf/LM/LM26420.html; ComponentLink4Description: SQB16A Package Page; ComponentLink4URL: http://www.national.com/packaging/folders/sqb16a.html
footprint SQB16A (QFN, 16-Leads, Body 4x4mm, Pitch 0.65mm, Thermal Pad 2.6x2.6mm, NSC Recommended)
pins: 1 VIND1 (power), 2 VIND1 (power), 3 SW1 (out), 4 PGND1 (power), 5 FB1 (in), 6 PG1 (oc), 7 PG2 (oc), 8 FB2 (in), 9 PGND2 (power), 10 SW2 (out), 11 VIND2 (power), 12 VIND2 (power), 13 EN2 (in), 14 AGND (power), 15 VINC (power), 16 EN1 (in), 17 DAP (power)

## LM26420YSQX/NOPB
designator U?
Dual 2.0A, High Frequency Synchronous Step-Down DC-DC Regulator, 16-pin LLP, Pb-Free; PartNumber: LM26420YSQX/NOPB; Manufacturer: National Semiconductor; PackageTopMarking: NS*UZXYTT*L26420Y; PowerWise: Y; CompType: Switcher; DatasheetVersion: May-2009; PackageVersion: revA, Dec-2005; PackageReference: SQB16A; PackageDescription: LLP, Plastic, Quad, 4 x 4 x 0.8mm, 16 Lead, 0.65mm Pitch, No Pullback; RoHS: Y; PinCount: 16; High-Reliability: Y; ComponentLink1Description: Manufacturer URL; ComponentLink1URL: http://www.national.com/; ComponentLink2Description: LM26420 Datasheet; ComponentLink2URL: http://www.national.com/ds/LM/LM26420.pdf; ComponentLink3Description: LM26420 Web Page; ComponentLink3URL: http://www.national.com/pf/LM/LM26420.html; ComponentLink4Description: SQB16A Package Page; ComponentLink4URL: http://www.national.com/packaging/folders/sqb16a.html
footprint SQB16A (QFN, 16-Leads, Body 4x4mm, Pitch 0.65mm, Thermal Pad 2.6x2.6mm, NSC Recommended)
pins: 1 VIND1 (power), 2 VIND1 (power), 3 SW1 (out), 4 PGND1 (power), 5 FB1 (in), 6 PG1 (oc), 7 PG2 (oc), 8 FB2 (in), 9 PGND2 (power), 10 SW2 (out), 11 VIND2 (power), 12 VIND2 (power), 13 EN2 (in), 14 AGND (power), 15 VINC (power), 16 EN1 (in), 17 DAP (power)

## LM27213MTDX
designator U?
Single Phase Hysteretic Buck Controller, 48-pin TSSOP; PartNumber: LM27213MTDX; Manufacturer: National Semiconductor; PackageTopMarking: NSUZXYTTE#*27213MTD; PowerWise: N; CompType: Switcher; High-Reliability: Y; DatasheetVersion: Feb-2006; PackageVersion: revE, Apr-2003; PackageReference: MTD48; PackageDescription: Molded TSSOP, Jedec, 12.5 x 6.1 x 0.9mm Body, 48 Lead, 0.50mm Pitch; RoHS: N; PinCount: 48; Code_JEDEC: MO-153-ED; ComponentLink1Description: Manufacturer URL; ComponentLink1URL: http://www.national.com/; ComponentLink2Description: LM27213 Datasheet; ComponentLink2URL: http://www.national.com/ds/LM/LM27213.pdf; ComponentLink3Description: LM27213 Web Page; ComponentLink3URL: http://www.national.com/pf/LM/LM27213.html; ComponentLink4Description: MTD48 Package Page; ComponentLink4URL: http://www.national.com/packaging/folders/mtd48.html
footprint MTD48_N (TSSOP, 48-Leads, Body 12.5x6.1mm, Pitch 0.5mm, IPC Medium Density)
footprint MTD48_L (TSSOP, 48-Leads, Body 12.5x6.1mm, Pitch 0.5mm, IPC High Density)
footprint MTD48_M (TSSOP, 48-Leads, Body 12.5x6.1mm, Pitch 0.5mm, IPC Low Density)
pins: 1 CBOOT, 2 HG (out), 3 SW (in), 4 NC, 5 SRCK (in), 6 NC, 7 ILIM (in), 8 ILIMREF (in), 9 CMP (in), 10 CMPREF (in), 11 VREF (out), 12 CLK_EN# (oc), 13 DGND (power), 14 PGOOD (oc), 15 XPOK (in), 16 SENSE (in), 17 VOVP (in), 18 P_Z2, 19 P_Z1, 20 NC, 21 NC, 22 P_Z0, 23 SGND (power), 24 VDD (power), 25 SS (in), 26 V1R7 (in), 27 VBOOT (in), 28 VSLP (in), 29 NC, 30 NC, 31 VDAC (out), 32 VSTP (in), 33 SLP (in), 34 STP_CPU# (in), 35 DE_EN# (in), 36 VID5 (in), 37 VID4 (in), 38 VID3 (in), 39 VID2 (in), 40 VID1 (in), 41 VID0 (in), 42 VR_ON (in), 43 NC, 44 NC, 45 PGND (power), 46 NC, 47 LG (out), 48 PVDD (power)

## LM27213MTDX/NOPB
designator U?
Single Phase Hysteretic Buck Controller, 48-pin TSSOP, Pb-Free; PartNumber: LM27213MTDX/NOPB; Manufacturer: National Semiconductor; PackageTopMarking: NSUZXYTTE#*27213MTD; PowerWise: N; CompType: Switcher; High-Reliability: Y; DatasheetVersion: Feb-2006; PackageVersion: revE, Apr-2003; PackageReference: MTD48; PackageDescription: Molded TSSOP, Jedec, 12.5 x 6.1 x 0.9mm Body, 48 Lead, 0.50mm Pitch; RoHS: Y; PinCount: 48; Code_JEDEC: MO-153-ED; ComponentLink1Description: Manufacturer URL; ComponentLink1URL: http://www.national.com/; ComponentLink2Description: LM27213 Datasheet; ComponentLink2URL: http://www.national.com/ds/LM/LM27213.pdf; ComponentLink3Description: LM27213 Web Page; ComponentLink3URL: http://www.national.com/pf/LM/LM27213.html; ComponentLink4Description: MTD48 Package Page; ComponentLink4URL: http://www.national.com/packaging/folders/mtd48.html
footprint MTD48_N (TSSOP, 48-Leads, Body 12.5x6.1mm, Pitch 0.5mm, IPC Medium Density)
footprint MTD48_L (TSSOP, 48-Leads, Body 12.5x6.1mm, Pitch 0.5mm, IPC High Density)
footprint MTD48_M (TSSOP, 48-Leads, Body 12.5x6.1mm, Pitch 0.5mm, IPC Low Density)
pins: 1 CBOOT, 2 HG (out), 3 SW (in), 4 NC, 5 SRCK (in), 6 NC, 7 ILIM (in), 8 ILIMREF (in), 9 CMP (in), 10 CMPREF (in), 11 VREF (out), 12 CLK_EN# (oc), 13 DGND (power), 14 PGOOD (oc), 15 XPOK (in), 16 SENSE (in), 17 VOVP (in), 18 P_Z2, 19 P_Z1, 20 NC, 21 NC, 22 P_Z0, 23 SGND (power), 24 VDD (power), 25 SS (in), 26 V1R7 (in), 27 VBOOT (in), 28 VSLP (in), 29 NC, 30 NC, 31 VDAC (out), 32 VSTP (in), 33 SLP (in), 34 STP_CPU# (in), 35 DE_EN# (in), 36 VID5 (in), 37 VID4 (in), 38 VID3 (in), 39 VID2 (in), 40 VID1 (in), 41 VID0 (in), 42 VR_ON (in), 43 NC, 44 NC, 45 PGND (power), 46 NC, 47 LG (out), 48 PVDD (power)

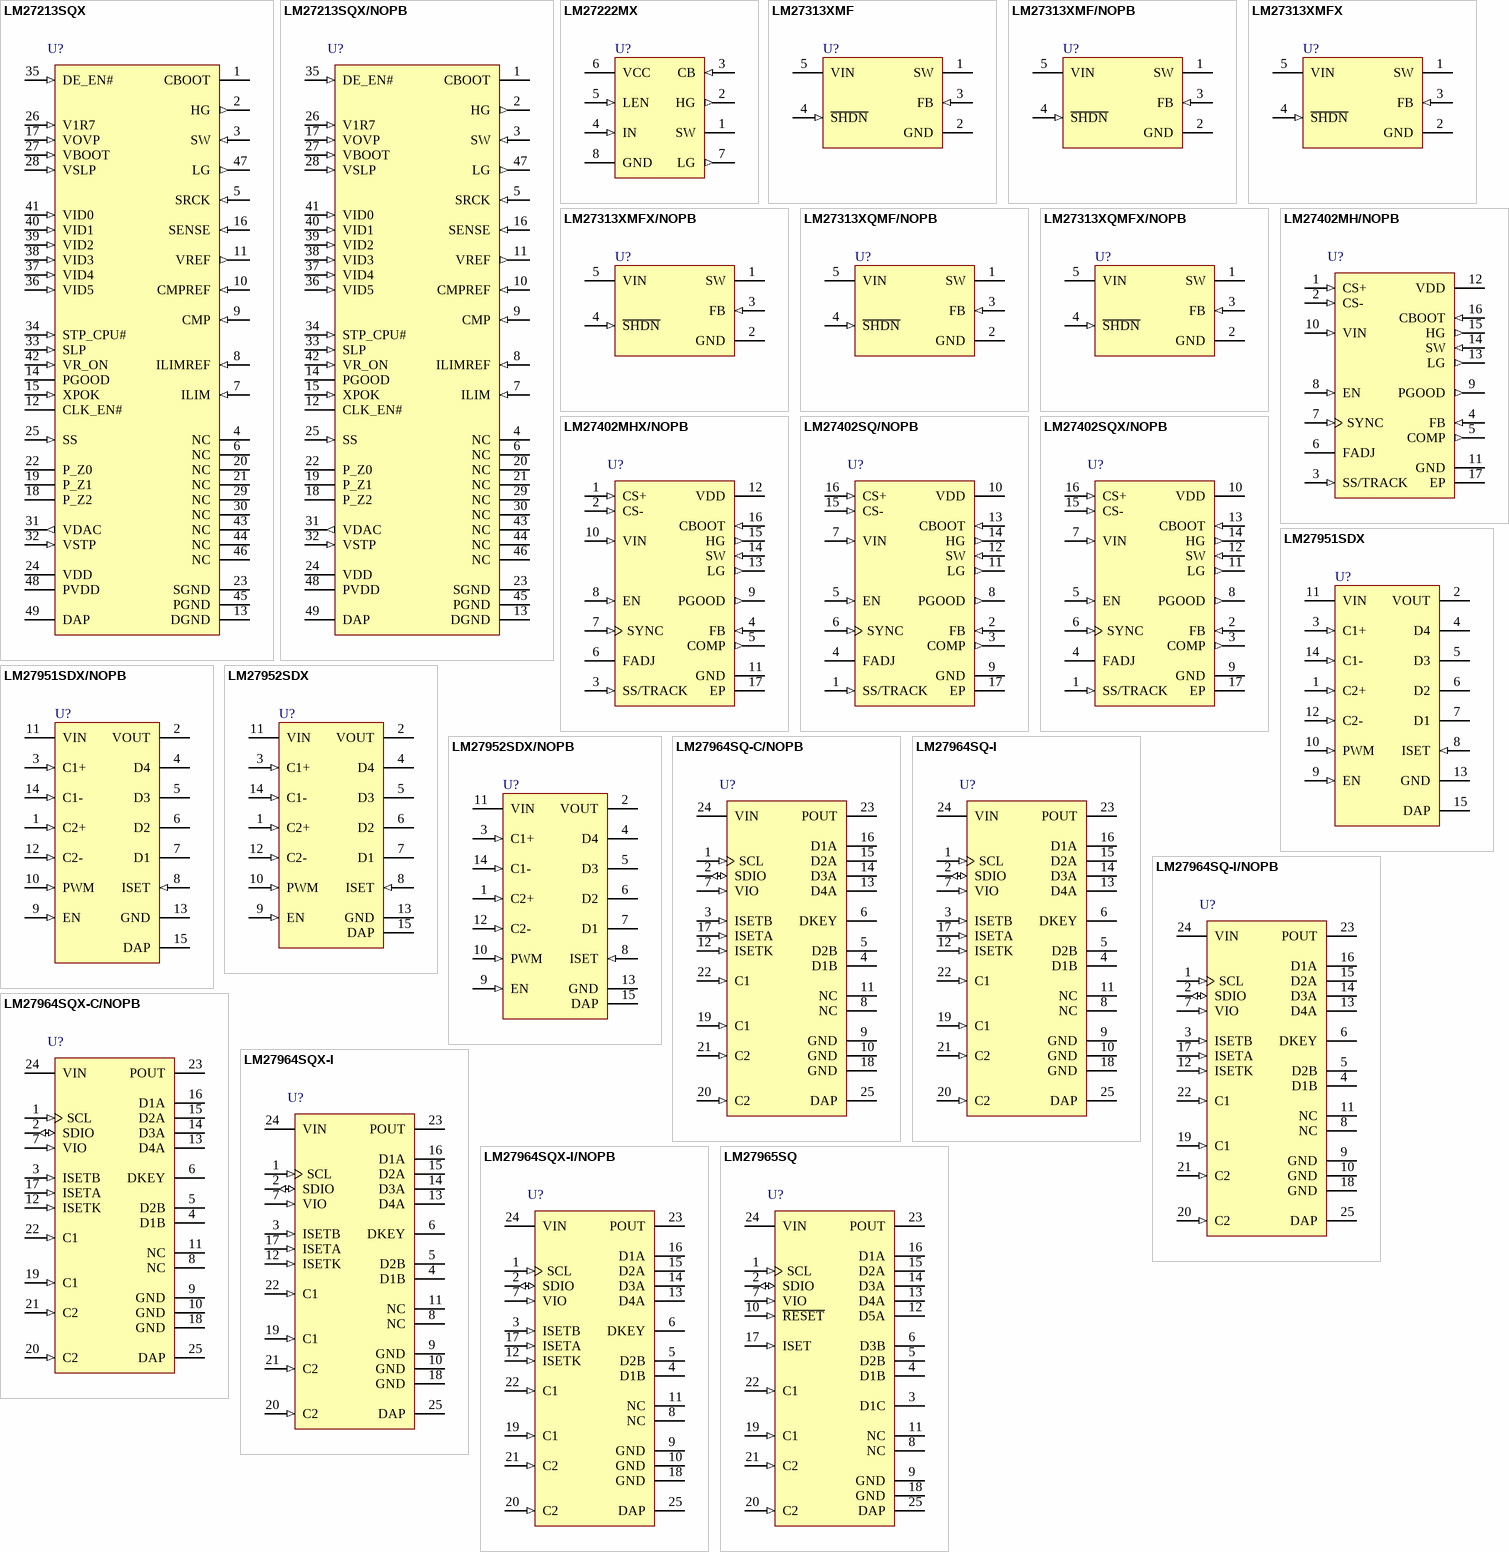
[diagram p60: symbols LM27213SQX to LM27965SQ]

## LM27213SQX
designator U?
Single Phase Hysteretic Buck Controller, 48-pin LLP; PartNumber: LM27213SQX; Manufacturer: National Semiconductor; PackageTopMarking: NS*UZXYTTE#*27213SQ; PowerWise: N; CompType: Switcher; High-Reliability: Y; DatasheetVersion: Feb-2006; PackageVersion: revB, May-2009; PackageReference: SQA48A; PackageDescription: LLP, Plastic, Quad, 7 x 7 x 0.8mm Body, 48 Lead, 0.5mm Pitch, No Pullback; RoHS: N; PinCount: 48; Code_JEDEC: MO-220-WKKD-2; ComponentLink1Description: Manufacturer URL; ComponentLink1URL: http://www.national.com/; ComponentLink2Description: LM27213 Datasheet; ComponentLink2URL: http://www.national.com/ds/LM/LM27213.pdf; ComponentLink3Description: LM27213 Web Page; ComponentLink3URL: http://www.national.com/pf/LM/LM27213.html; ComponentLink4Description: SQA48A Package Page; ComponentLink4URL: http://www.national.com/packaging/folders/sqa48a.html
footprint SQA48A (QFN, 48-Leads, Body 7x7mm, Pitch 0.5mm, Thermal Pad 5.2x5.2mm, NSC Recommended)
pins: 1 CBOOT, 2 HG (out), 3 SW (in), 4 NC, 5 SRCK (in), 6 NC, 7 ILIM (in), 8 ILIMREF (in), 9 CMP (in), 10 CMPREF (in), 11 VREF (out), 12 CLK_EN# (oc), 13 DGND (power), 14 PGOOD (oc), 15 XPOK (in), 16 SENSE (in), 17 VOVP (in), 18 P_Z2, 19 P_Z1, 20 NC, 21 NC, 22 P_Z0, 23 SGND (power), 24 VDD (power), 25 SS (in), 26 V1R7 (in), 27 VBOOT (in), 28 VSLP (in), 29 NC, 30 NC, 31 VDAC (out), 32 VSTP (in), 33 SLP (in), 34 STP_CPU# (in), 35 DE_EN# (in), 36 VID5 (in), 37 VID4 (in), 38 VID3 (in), 39 VID2 (in), 40 VID1 (in), 41 VID0 (in), 42 VR_ON (in), 43 NC, 44 NC, 45 PGND (power), 46 NC, 47 LG (out), 48 PVDD (power), 49 DAP (power)

## LM27213SQX/NOPB
designator U?
Single Phase Hysteretic Buck Controller, 48-pin LLP, Pb-Free; PartNumber: LM27213SQX/NOPB; Manufacturer: National Semiconductor; PackageTopMarking: NS*UZXYTTE#*27213SQ; PowerWise: N; CompType: Switcher; High-Reliability: Y; DatasheetVersion: Feb-2006; PackageVersion: revB, May-2009; PackageReference: SQA48A; PackageDescription: LLP, Plastic, Quad, 7 x 7 x 0.8mm Body, 48 Lead, 0.5mm Pitch, No Pullback; RoHS: Y; PinCount: 48; Code_JEDEC: MO-220-WKKD-2; ComponentLink1Description: Manufacturer URL; ComponentLink1URL: http://www.national.com/; ComponentLink2Description: LM27213 Datasheet; ComponentLink2URL: http://www.national.com/ds/LM/LM27213.pdf; ComponentLink3Description: LM27213 Web Page; ComponentLink3URL: http://www.national.com/pf/LM/LM27213.html; ComponentLink4Description: SQA48A Package Page; ComponentLink4URL: http://www.national.com/packaging/folders/sqa48a.html
footprint SQA48A (QFN, 48-Leads, Body 7x7mm, Pitch 0.5mm, Thermal Pad 5.2x5.2mm, NSC Recommended)
pins: 1 CBOOT, 2 HG (out), 3 SW (in), 4 NC, 5 SRCK (in), 6 NC, 7 ILIM (in), 8 ILIMREF (in), 9 CMP (in), 10 CMPREF (in), 11 VREF (out), 12 CLK_EN# (oc), 13 DGND (power), 14 PGOOD (oc), 15 XPOK (in), 16 SENSE (in), 17 VOVP (in), 18 P_Z2, 19 P_Z1, 20 NC, 21 NC, 22 P_Z0, 23 SGND (power), 24 VDD (power), 25 SS (in), 26 V1R7 (in), 27 VBOOT (in), 28 VSLP (in), 29 NC, 30 NC, 31 VDAC (out), 32 VSTP (in), 33 SLP (in), 34 STP_CPU# (in), 35 DE_EN# (in), 36 VID5 (in), 37 VID4 (in), 38 VID3 (in), 39 VID2 (in), 40 VID1 (in), 41 VID0 (in), 42 VR_ON (in), 43 NC, 44 NC, 45 PGND (power), 46 NC, 47 LG (out), 48 PVDD (power), 49 DAP (power)

## LM27222MX
designator U?
High-Speed 4.5A Synchronous MOSFET Driver, 8-pin Narrow SOIC; PartNumber: LM27222MX; Manufacturer: National Semiconductor; PackageTopMarking: NSZXTT*27222*M; PowerWise: N; CompType: Switcher; High-Reliability: Y; DatasheetVersion: Mar-2006; PackageVersion: revM, May-2009; PackageReference: M08A; PackageDescription: SOIC Narrow, 4.9 x 3.9 x 1.45mm, 8 Lead, 1.27mm Pitch; RoHS: N; PinCount: 8; Code_JEDEC: MS-012-AA; Code_IPC: SOIC127P600-8; ComponentLink1Description: Manufacturer URL; ComponentLink1URL: http://www.national.com/; ComponentLink2Description: LM27222 Datasheet; ComponentLink2URL: http://www.national.com/ds/LM/LM27222.pdf; ComponentLink3Description: LM27222 Web Page; ComponentLink3URL: http://www.national.com/pf/LM/LM27222.html; ComponentLink4Description: M08A Package Page; ComponentLink4URL: http://www.national.com/packaging/folders/m08a.html
footprint M08A_N (SOIC, 8-Leads, Body 4.9x3.9mm, Pitch 1.27mm, IPC Medium Density)
footprint M08A_L (SOIC, 8-Leads, Body 4.9x3.9mm, Pitch 1.27mm, IPC High Density)
footprint M08A_M (SOIC, 8-Leads, Body 4.9x3.9mm, Pitch 1.27mm, IPC Low Density)
pins: 1 SW (power), 2 HG (out), 3 CB (in), 4 IN (in), 5 LEN (in), 6 VCC (power), 7 LG (out), 8 GND (power)

## LM27313XMF
designator U?
1.6 MHz Boost Converter With 30V Internal FET Switch, 5-pin SOT-23; PartNumber: LM27313XMF; Manufacturer: National Semiconductor; PackageTopMarking: SRPB*XTT; PowerWise: N; CompType: Switcher; High-Reliability: Y; DatasheetVersion: Jul-2007; PackageVersion: revD, Aug-2008; PackageReference: MF05A; PackageDescription: Molded SOT-23, .115 x .063 x .040 in Body, 5 Lead, .0375 in Pitch; RoHS: N; PinCount: 5; ComponentLink1Description: Manufacturer URL; ComponentLink1URL: http://www.national.com/; ComponentLink2Description: LM27313 Datasheet; ComponentLink2URL: http://www.national.com/ds/LM/LM27313.pdf; ComponentLink3Description: LM27313 Web Page; ComponentLink3URL: http://www.national.com/pf/LM/LM27313.html; ComponentLink4Description: MF05A Package Page; ComponentLink4URL: http://www.national.com/packaging/folders/mf05a.html
footprint MF05A_N (SOT23, 5-Leads, Body 2.9x1.6mm, Pitch 0.95mm, Lead Span 2.8mm, IPC Medium Density)
footprint MF05A_L (SOT23, 5-Leads, Body 2.9x1.6mm, Pitch 0.95mm, Lead Span 2.8mm, IPC High Density)
footprint MF05A_M (SOT23, 5-Leads, Body 2.9x1.6mm, Pitch 0.95mm, Lead Span 2.8mm, IPC Low Density)
pins: 1 SW (power), 2 GND (power), 3 FB (in), 4 ~{SHDN} (in), 5 VIN (power)

## LM27313XMF/NOPB
designator U?
1.6 MHz Boost Converter With 30V Internal FET Switch, 5-pin SOT-23, Pb-Free, 1000 Reel; PartNumber: LM27313XMF/NOPB; Manufacturer: National Semiconductor; PackageTopMarking: SRPB*XTT; PowerWise: N; CompType: Switcher; High-Reliability: Y; DatasheetVersion: Jul-2011; PackageVersion: revD, Aug-2008; PackageReference: MF05A; PackageDescription: Molded SOT-23, .115 x .063 x .040 in Body, 5 Lead, .0375 in Pitch; RoHS: Y; PinCount: 5; ComponentLink1Description: Manufacturer URL; ComponentLink1URL: http://www.national.com/; ComponentLink2Description: LM27313 Datasheet; ComponentLink2URL: http://www.national.com/ds/LM/LM27313.pdf; ComponentLink3Description: LM27313 Web Page; ComponentLink3URL: http://www.national.com/pf/LM/LM27313.html; ComponentLink4Description: MF05A Package Page; ComponentLink4URL: http://www.national.com/packaging/folders/mf05a.html
footprint MF05A_N (SOT23, 5-Leads, Body 2.9x1.6mm, Pitch 0.95mm, Lead Span 2.8mm, IPC Medium Density)
footprint MF05A_L (SOT23, 5-Leads, Body 2.9x1.6mm, Pitch 0.95mm, Lead Span 2.8mm, IPC High Density)
footprint MF05A_M (SOT23, 5-Leads, Body 2.9x1.6mm, Pitch 0.95mm, Lead Span 2.8mm, IPC Low Density)
pins: 1 SW (power), 2 GND (power), 3 FB (in), 4 ~{SHDN} (in), 5 VIN (power)

## LM27313XMFX
designator U?
1.6 MHz Boost Converter With 30V Internal FET Switch in 5-pin SOT-23; PartNumber: LM27313XMFX; Manufacturer: National Semiconductor; PackageTopMarking: SRPB*XTT; PowerWise: N; CompType: Switcher; High-Reliability: Y; DatasheetVersion: Jul-2007; PackageVersion: revD, Aug-2008; PackageReference: MF05A; PackageDescription: Molded SOT-23, .115 x .063 x .040 in Body, 5 Lead, .0375 in Pitch; RoHS: N; PinCount: 5; ComponentLink1Description: Manufacturer URL; ComponentLink1URL: http://www.national.com/; ComponentLink2Description: LM27313 Datasheet; ComponentLink2URL: http://www.national.com/ds/LM/LM27313.pdf; ComponentLink3Description: LM27313 Web Page; ComponentLink3URL: http://www.national.com/pf/LM/LM27313.html; ComponentLink4Description: MF05A Package Page; ComponentLink4URL: http://www.national.com/packaging/folders/mf05a.html
footprint MF05A_N (SOT23, 5-Leads, Body 2.9x1.6mm, Pitch 0.95mm, Lead Span 2.8mm, IPC Medium Density)
footprint MF05A_L (SOT23, 5-Leads, Body 2.9x1.6mm, Pitch 0.95mm, Lead Span 2.8mm, IPC High Density)
footprint MF05A_M (SOT23, 5-Leads, Body 2.9x1.6mm, Pitch 0.95mm, Lead Span 2.8mm, IPC Low Density)
pins: 1 SW (power), 2 GND (power), 3 FB (in), 4 ~{SHDN} (in), 5 VIN (power)

## LM27313XMFX/NOPB
designator U?
1.6 MHz Boost Converter With 30V Internal FET Switch, 5-pin SOT-23, Pb-Free, 3000 Reel; PartNumber: LM27313XMFX/NOPB; Manufacturer: National Semiconductor; PackageTopMarking: SRPB*XTT; PowerWise: N; CompType: Switcher; High-Reliability: Y; DatasheetVersion: Jul-2011; PackageVersion: revD, Aug-2008; PackageReference: MF05A; PackageDescription: Molded SOT-23, .115 x .063 x .040 in Body, 5 Lead, .0375 in Pitch; RoHS: Y; PinCount: 5; ComponentLink1Description: Manufacturer URL; ComponentLink1URL: http://www.national.com/; ComponentLink2Description: LM27313 Datasheet; ComponentLink2URL: http://www.national.com/ds/LM/LM27313.pdf; ComponentLink3Description: LM27313 Web Page; ComponentLink3URL: http://www.national.com/pf/LM/LM27313.html; ComponentLink4Description: MF05A Package Page; ComponentLink4URL: http://www.national.com/packaging/folders/mf05a.html
footprint MF05A_N (SOT23, 5-Leads, Body 2.9x1.6mm, Pitch 0.95mm, Lead Span 2.8mm, IPC Medium Density)
footprint MF05A_L (SOT23, 5-Leads, Body 2.9x1.6mm, Pitch 0.95mm, Lead Span 2.8mm, IPC High Density)
footprint MF05A_M (SOT23, 5-Leads, Body 2.9x1.6mm, Pitch 0.95mm, Lead Span 2.8mm, IPC Low Density)
pins: 1 SW (power), 2 GND (power), 3 FB (in), 4 ~{SHDN} (in), 5 VIN (power)

## LM27313XQMF/NOPB
designator U?
1.6 MHz Boost Converter With 30V Internal FET Switch, Automotive Grade 1, 5-pin SOT-23, Pb-Free, 1000 Reel; PartNumber: LM27313XQMF/NOPB; Manufacturer: National Semiconductor; PackageTopMarking: SD3B*XTT; PowerWise: N; CompType: Switcher; High-Reliability: Y; DatasheetVersion: Jul-2011; PackageVersion: revD, Aug-2008; PackageReference: MF05A; PackageDescription: Molded SOT-23, .115 x .063 x .040 in Body, 5 Lead, .0375 in Pitch; RoHS: Y; PinCount: 5; ComponentLink1Description: Manufacturer URL; ComponentLink1URL: http://www.national.com/; ComponentLink2Description: LM27313 Datasheet; ComponentLink2URL: http://www.national.com/ds/LM/LM27313.pdf; ComponentLink3Description: LM27313 Web Page; ComponentLink3URL: http://www.national.com/pf/LM/LM27313.html; ComponentLink4Description: MF05A Package Page; ComponentLink4URL: http://www.national.com/packaging/folders/mf05a.html
footprint MF05A_N (SOT23, 5-Leads, Body 2.9x1.6mm, Pitch 0.95mm, Lead Span 2.8mm, IPC Medium Density)
footprint MF05A_L (SOT23, 5-Leads, Body 2.9x1.6mm, Pitch 0.95mm, Lead Span 2.8mm, IPC High Density)
footprint MF05A_M (SOT23, 5-Leads, Body 2.9x1.6mm, Pitch 0.95mm, Lead Span 2.8mm, IPC Low Density)
pins: 1 SW (power), 2 GND (power), 3 FB (in), 4 ~{SHDN} (in), 5 VIN (power)

## LM27313XQMFX/NOPB
designator U?
1.6 MHz Boost Converter With 30V Internal FET Switch, Automotive Grade 1, 5-pin SOT-23, Pb-Free, 3000 Reel; PartNumber: LM27313XQMFX/NOPB; Manufacturer: National Semiconductor; PackageTopMarking: SD3B*XTT; PowerWise: N; CompType: Switcher; High-Reliability: Y; DatasheetVersion: Jul-2011; PackageVersion: revD, Aug-2008; PackageReference: MF05A; PackageDescription: Molded SOT-23, .115 x .063 x .040 in Body, 5 Lead, .0375 in Pitch; RoHS: Y; PinCount: 5; ComponentLink1Description: Manufacturer URL; ComponentLink1URL: http://www.national.com/; ComponentLink2Description: LM27313 Datasheet; ComponentLink2URL: http://www.national.com/ds/LM/LM27313.pdf; ComponentLink3Description: LM27313 Web Page; ComponentLink3URL: http://www.national.com/pf/LM/LM27313.html; ComponentLink4Description: MF05A Package Page; ComponentLink4URL: http://www.national.com/packaging/folders/mf05a.html
footprint MF05A_N (SOT23, 5-Leads, Body 2.9x1.6mm, Pitch 0.95mm, Lead Span 2.8mm, IPC Medium Density)
footprint MF05A_L (SOT23, 5-Leads, Body 2.9x1.6mm, Pitch 0.95mm, Lead Span 2.8mm, IPC High Density)
footprint MF05A_M (SOT23, 5-Leads, Body 2.9x1.6mm, Pitch 0.95mm, Lead Span 2.8mm, IPC Low Density)
pins: 1 SW (power), 2 GND (power), 3 FB (in), 4 ~{SHDN} (in), 5 VIN (power)

## LM27402MH/NOPB
designator U?
High Performance Synchronous Buck Controller with DCR Current Sensing, 16-pin TSSOP-EP, Rail; PartNumber: LM27402MH/NOPB; Manufacturer: National Semiconductor; PackageTopMarking: NSUZXYTT*L27402*MH; PowerWise: N; CompType: Switcher; High-Reliability: Y; DatasheetVersion: Sep-2010; PackageVersion: revA, Apr-2003; PackageReference: MXA16A; PackageDescription: Molded TSSOP, Jedec, Exposed Pad, 5.0 x 4.4 x 0.9mm Body,16 Lead, 0.65mm Pitch; RoHS: Y; PinCount: 16; Code_JEDEC: MO-153-ABT; ComponentLink1Description: Manufacturer URL; ComponentLink1URL: http://www.national.com/; ComponentLink2Description: LM27402 Datasheet; ComponentLink2URL: http://www.national.com/ds/LM/LM27402.pdf; ComponentLink3Description: LM27402 Web Page; ComponentLink3URL: http://www.national.com/pf/LM/LM27402.html; ComponentLink4Description: MXA16A Package Page; ComponentLink4URL: http://www.national.com/packaging/folders/mxa16a.html
footprint MXA16A_N (TSOP, 16-Leads, Body 5x4.4mm, Pitch 0.65mm, Thermal Pad, IPC Medium Density)
footprint MXA16A_L (TSOP, 16-Leads, Body 5x4.4mm, Pitch 0.65mm, Thermal Pad, IPC High Density)
footprint MXA16A_M (TSOP, 16-Leads, Body 5x4.4mm, Pitch 0.65mm, Thermal Pad, IPC Low Density)
pins: 1 CS+ (in), 2 CS- (in), 3 SS/TRACK (in), 4 FB (in), 5 COMP (out), 6 FADJ, 7 SYNC (in), 8 EN (in), 9 PGOOD (out), 10 VIN (in), 11 GND (power), 12 VDD (power), 13 LG (out), 14 SW (in), 15 HG (out), 16 CBOOT (in), 17 EP (power)

## LM27402MHX/NOPB
designator U?
High Performance Synchronous Buck Controller with DCR Current Sensing, 16-pin TSSOP-EP, Reel; PartNumber: LM27402MHX/NOPB; Manufacturer: National Semiconductor; PackageTopMarking: NSUZXYTT*L27402*MH; PowerWise: N; CompType: Switcher; High-Reliability: Y; DatasheetVersion: Sep-2010; PackageVersion: revA, Apr-2003; PackageReference: MXA16A; PackageDescription: Molded TSSOP, Jedec, Exposed Pad, 5.0 x 4.4 x 0.9mm Body,16 Lead, 0.65mm Pitch; RoHS: Y; PinCount: 16; Code_JEDEC: MO-153-ABT; ComponentLink1Description: Manufacturer URL; ComponentLink1URL: http://www.national.com/; ComponentLink2Description: LM27402 Datasheet; ComponentLink2URL: http://www.national.com/ds/LM/LM27402.pdf; ComponentLink3Description: LM27402 Web Page; ComponentLink3URL: http://www.national.com/pf/LM/LM27402.html; ComponentLink4Description: MXA16A Package Page; ComponentLink4URL: http://www.national.com/packaging/folders/mxa16a.html
footprint MXA16A_N (TSOP, 16-Leads, Body 5x4.4mm, Pitch 0.65mm, Thermal Pad, IPC Medium Density)
footprint MXA16A_L (TSOP, 16-Leads, Body 5x4.4mm, Pitch 0.65mm, Thermal Pad, IPC High Density)
footprint MXA16A_M (TSOP, 16-Leads, Body 5x4.4mm, Pitch 0.65mm, Thermal Pad, IPC Low Density)
pins: 1 CS+ (in), 2 CS- (in), 3 SS/TRACK (in), 4 FB (in), 5 COMP (out), 6 FADJ, 7 SYNC (in), 8 EN (in), 9 PGOOD (out), 10 VIN (in), 11 GND (power), 12 VDD (power), 13 LG (out), 14 SW (in), 15 HG (out), 16 CBOOT (in), 17 EP (power)

## LM27402SQ/NOPB
designator U?
High Performance Synchronous Buck Controller with DCR Current Sensing, 16 pin LLP; PartNumber: LM27402SQ/NOPB; Manufacturer: National Semiconductor; PackageTopMarking: NS*UZXYTT*27402S; PowerWise: Y; CompType: Switcher; DatasheetVersion: Sep-2010; PackageVersion: revA, Dec-2005; PackageReference: SQB16A; PackageDescription: LLP, Plastic, Quad, 4 x 4 x 0.8mm, 16 Lead, 0.65mm Pitch, No Pullback; RoHS: Y; PinCount: 16; High-Reliability: Y; ComponentLink1Description: Manufacturer URL; ComponentLink1URL: http://www.national.com/; ComponentLink2Description: LM27402 Datasheet; ComponentLink2URL: http://www.national.com/ds/LM/LM27402.pdf; ComponentLink3Description: LM27402 Web Page; ComponentLink3URL: http://www.national.com/pf/LM/LM27402.html; ComponentLink4Description: SQB16A Package Page; ComponentLink4URL: http://www.national.com/packaging/folders/sqb16a.html
footprint SQB16A (QFN, 16-Leads, Body 4x4mm, Pitch 0.65mm, Thermal Pad 2.6x2.6mm, NSC Recommended)
pins: 1 SS/TRACK (in), 2 FB (in), 3 COMP (out), 4 FADJ, 5 EN (in), 6 SYNC (in), 7 VIN (in), 8 PGOOD (out), 9 GND (power), 10 VDD (power), 11 LG (out), 12 SW (in), 13 CBOOT (in), 14 HG (out), 15 CS- (in), 16 CS+ (in), 17 EP (power)

## LM27402SQX/NOPB
designator U?
High Performance Synchronous Buck Controller with DCR Current Sensing, 16 pin LLP; PartNumber: LM27402SQX/NOPB; Manufacturer: National Semiconductor; PackageTopMarking: NS*UZXYTT*27402S; PowerWise: Y; CompType: Switcher; DatasheetVersion: Sep-2010; PackageVersion: revA, Dec-2005; PackageReference: SQB16A; PackageDescription: LLP, Plastic, Quad, 4 x 4 x 0.8mm, 16 Lead, 0.65mm Pitch, No Pullback; RoHS: Y; PinCount: 16; High-Reliability: Y; ComponentLink1Description: Manufacturer URL; ComponentLink1URL: http://www.national.com/; ComponentLink2Description: LM27402 Datasheet; ComponentLink2URL: http://www.national.com/ds/LM/LM27402.pdf; ComponentLink3Description: LM27402 Web Page; ComponentLink3URL: http://www.national.com/pf/LM/LM27402.html; ComponentLink4Description: SQB16A Package Page; ComponentLink4URL: http://www.national.com/packaging/folders/sqb16a.html
footprint SQB16A (QFN, 16-Leads, Body 4x4mm, Pitch 0.65mm, Thermal Pad 2.6x2.6mm, NSC Recommended)
pins: 1 SS/TRACK (in), 2 FB (in), 3 COMP (out), 4 FADJ, 5 EN (in), 6 SYNC (in), 7 VIN (in), 8 PGOOD (out), 9 GND (power), 10 VDD (power), 11 LG (out), 12 SW (in), 13 CBOOT (in), 14 HG (out), 15 CS- (in), 16 CS+ (in), 17 EP (power)

## LM27951SDX
designator U?
White LED Adaptive 1.5X/1X Switched Capacitor Current Driver, 14-pin LLP; PartNumber: LM27951SDX; Manufacturer: National Semiconductor; PackageTopMarking: ZXYTTE#*D006B; PowerWise: Y; CompType: Switcher; DatasheetVersion: Nov-2005; PackageVersion: revA, Jun-2003; PackageReference: SDA14A; PackageDescription: LLP, Plastic, Dual, 4 x 3 x 0.8mm Body, 14 Lead, 0.5mm Pitch, No Pullback; RoHS: N; PinCount: 14; High-Reliability: Y; ComponentLink1Description: Manufacturer URL; ComponentLink1URL: http://www.national.com/; ComponentLink2Description: LM27951 Datasheet; ComponentLink2URL: http://www.national.com/ds/LM/LM27951.pdf; ComponentLink3Description: LM27951 Web Page; ComponentLink3URL: http://www.national.com/pf/LM/LM27951.html; ComponentLink4Description: SDA14A Package Page; ComponentLink4URL: http://www.national.com/packaging/folders/sda14a.html
footprint SDA14A (SON, 14-Leads, Body 4x3mm, Pitch 0.5mm, NSC Recommended)
pins: 1 C2+ (in), 2 VOUT (power), 3 C1+ (in), 4 D4 (oc), 5 D3 (oc), 6 D2 (oc), 7 D1 (oc), 8 ISET (in), 9 EN (in), 10 PWM (in), 11 VIN (power), 12 C2- (in), 13 GND (power), 14 C1- (in), 15 DAP (power)